# EAGLE library part SIA907EDJT (library jseng)
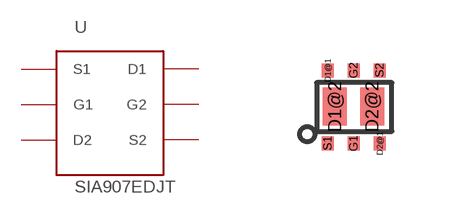
[diagram p4: symbol with the pads of SC70T; footprint SC70T]

Designator prefix -

## SIA907EDJT  [SC70T]
D1@1  D1
D1@2  D1
D2@1  D2
D2@2  D2
G1  G1
G2  G2
S1  S1
S2  S2

## Footprint SC70T (pad centres in mm)
smd 0.3 x 0.35: D1@1 -0.65,0.89; D2@1 0.65,-0.94; G1 0,-0.94; G2 0,0.89; S1 -0.65,-0.94; S2 0.65,0.89
smd 0.6 x 0.95: D1@2 -0.47,-0.02; D2@2 0.46,-0.02